# Altium schematic symbol library SCH - POWER - LINEAR VREG - TI TPS74501DRV.SchLib: 1 symbol
Pins are listed as number, name and electrical type; pins without a type are passive.

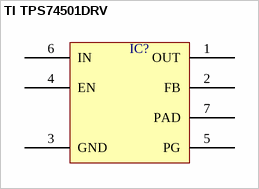
[diagram p0: symbol TI TPS74501DRV]

## TI TPS74501DRV
designator IC?  (value not drawn)
pins: 1 OUT, 2 FB, 3 GND, 4 EN, 5 PG, 6 IN, 7 PAD